# EAGLE library part LM2596S-5.0_NOPB (library SamacSys_Parts)
Switching Voltage Regulators 150 KHZ 3A STEP-DOWN VLTG REG Source: Datasheet <https://www.ti.com/lit/gpn/LM2596>
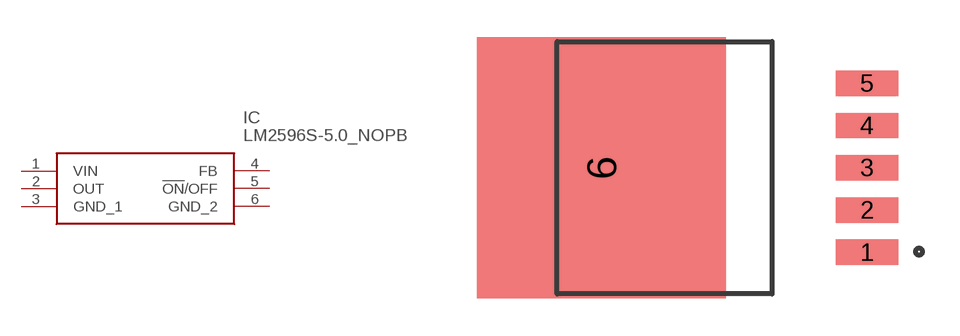
[diagram p0: symbol with the pads of KTT0005B; footprint KTT0005B]

Designator prefix IC

## LM2596S-5.0_NOPB (DESCRIPTION: Switching Voltage Regulators 150 KHZ 3A STEP-DOWN VLTG REG; HEIGHT: mm; MANUFACTURER_NAME: Texas Instruments; MANUFACTURER_PART_NUMBER: LM2596S-5.0/NOPB; MOUSER_PART_NUMBER: 926-LM2596S-5.0/NOPB; MOUSER_PRICE-STOCK: https://www.mouser.co.uk/ProductDetail/Texas-Instruments/LM2596S-5.0-NOPB?qs=X1J7HmVL2ZHVjCOmW%252BYINA%3D%3D)  [KTT0005B]
1  VIN
2  OUT
3  GND_1
4  FB
5  !ON!/OFF
6  GND_2

## Footprint KTT0005B (pad centres in mm)
KTT0005B
smd 2.5 x 1.02: 1 6.111,-3.4; 2 6.111,-1.7; 3 6.111,0; 4 6.111,1.7; 5 6.111,3.4
smd 10 x 10.5: 6 -4.564,0